# EAGLE library part LPC2138FHN64/01,55 (library NXP_By_element14_Batch_1)
Microcontroller ISP/IAP Flash with 10-bit ADC and DAC
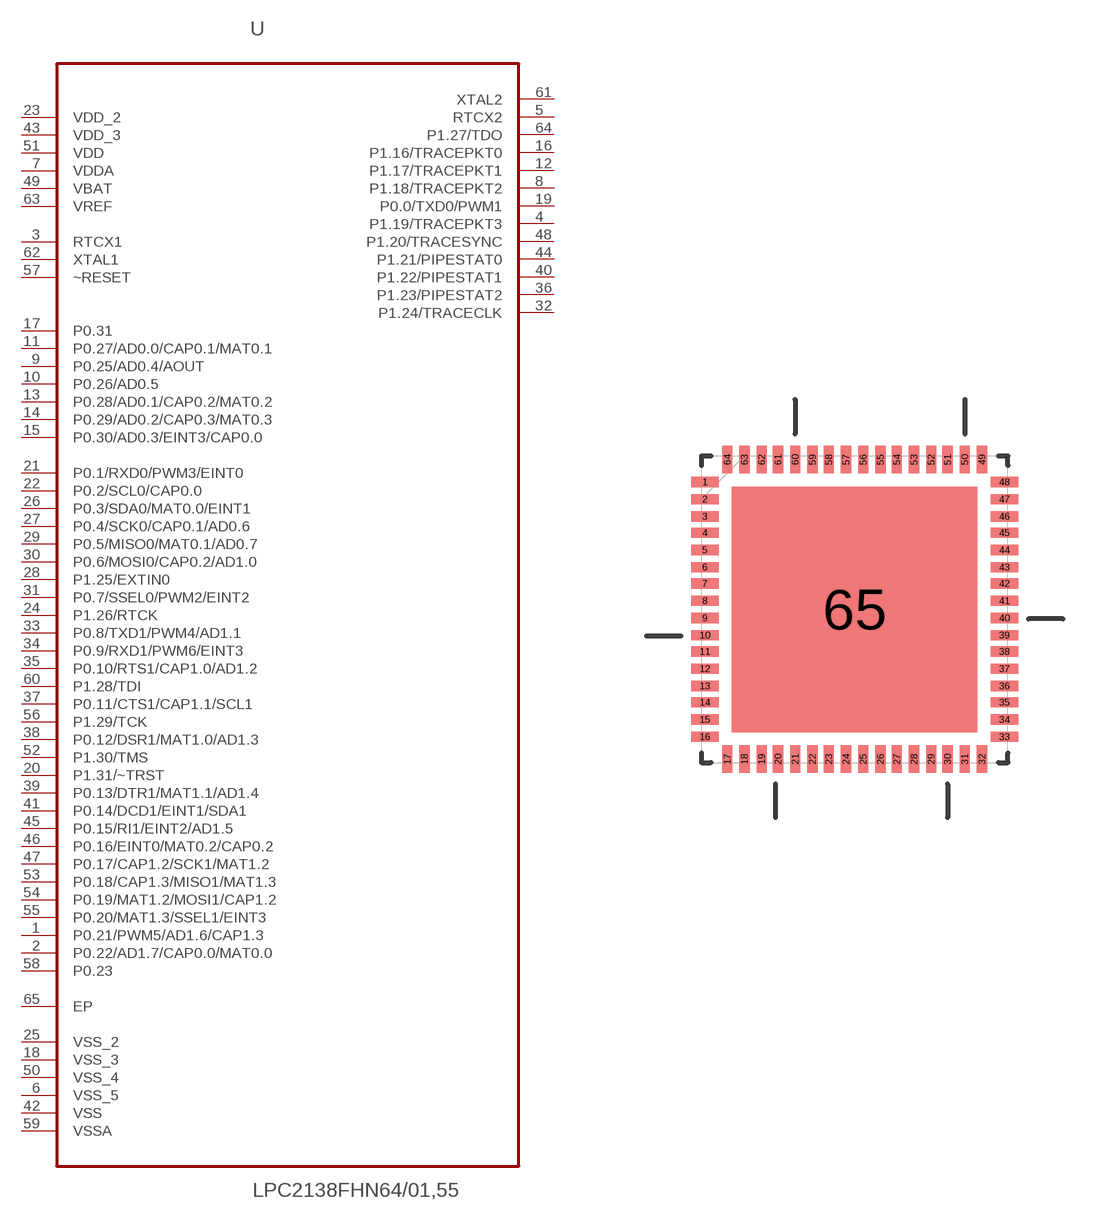
[diagram p369: symbol with the pads of QFN50P900X900X100-65N; footprint QFN50P900X900X100-65N]

Designator prefix U

## LPC2138FHN64/01,55 (MPN: LPC2138FHN64/01,55; OC_FARNELL: -; OC_NEWARK: 70R5626; PACKAGE: HVQFN-64; SUPPLIER: NXP Semiconductor)  [QFN50P900X900X100-65N]
1  P0.21/PWM5/AD1.6/CAP1.3
2  P0.22/AD1.7/CAP0.0/MAT0.0
3  RTCX1  in
4  P1.19/TRACEPKT3  out
5  RTCX2  out
6  VSS_5  pas
7  VDDA  pwr
8  P1.18/TRACEPKT2  out
9  P0.25/AD0.4/AOUT  pas
10  P0.26/AD0.5
11  P0.27/AD0.0/CAP0.1/MAT0.1
12  P1.17/TRACEPKT1  out
13  P0.28/AD0.1/CAP0.2/MAT0.2
14  P0.29/AD0.2/CAP0.3/MAT0.3
15  P0.30/AD0.3/EINT3/CAP0.0  in
16  P1.16/TRACEPKT0  out
17  P0.31
18  VSS_3  pas
19  P0.0/TXD0/PWM1  out
20  P1.31/~TRST  in
21  P0.1/RXD0/PWM3/EINT0
22  P0.2/SCL0/CAP0.0
23  VDD_2  pwr
24  P1.26/RTCK
25  VSS_2
26  P0.3/SDA0/MAT0.0/EINT1
27  P0.4/SCK0/CAP0.1/AD0.6
28  P1.25/EXTIN0  in
29  P0.5/MISO0/MAT0.1/AD0.7
30  P0.6/MOSI0/CAP0.2/AD1.0
31  P0.7/SSEL0/PWM2/EINT2
32  P1.24/TRACECLK  out
33  P0.8/TXD1/PWM4/AD1.1
34  P0.9/RXD1/PWM6/EINT3
35  P0.10/RTS1/CAP1.0/AD1.2
36  P1.23/PIPESTAT2  out
37  P0.11/CTS1/CAP1.1/SCL1
38  P0.12/DSR1/MAT1.0/AD1.3
39  P0.13/DTR1/MAT1.1/AD1.4
40  P1.22/PIPESTAT1  out
41  P0.14/DCD1/EINT1/SDA1
42  VSS  pas
43  VDD_3  pwr
44  P1.21/PIPESTAT0  out
45  P0.15/RI1/EINT2/AD1.5  in
46  P0.16/EINT0/MAT0.2/CAP0.2
47  P0.17/CAP1.2/SCK1/MAT1.2
48  P1.20/TRACESYNC  out
49  VBAT  pwr
50  VSS_4  pas
51  VDD  pwr
52  P1.30/TMS  in
53  P0.18/CAP1.3/MISO1/MAT1.3
54  P0.19/MAT1.2/MOSI1/CAP1.2
55  P0.20/MAT1.3/SSEL1/EINT3
56  P1.29/TCK  in
57  ~RESET  in
58  P0.23
59  VSSA  pas
60  P1.28/TDI  in
61  XTAL2  out
62  XTAL1  in
63  VREF  pwr
64  P1.27/TDO  out
65  EP  pas

## Footprint QFN50P900X900X100-65N (pad centres in mm)
smd 0.813 x 0.305: 1 -4.42,3.759; 2 -4.42,3.251; 3 -4.42,2.743; 4 -4.42,2.261; 5 -4.42,1.753; 6 -4.42,1.245; 7 -4.42,0.762; 8 -4.42,0.254; 9 -4.42,-0.254; 10 -4.42,-0.762; 11 -4.42,-1.245; 12 -4.42,-1.753; 13 -4.42,-2.261; 14 -4.42,-2.743; 15 -4.42,-3.251; 16 -4.42,-3.759; 33 4.42,-3.759; 34 4.42,-3.251; 35 4.42,-2.743; 36 4.42,-2.261; 37 4.42,-1.753; 38 4.42,-1.245; 39 4.42,-0.762; 40 4.42,-0.254; 41 4.42,0.254; 42 4.42,0.762; 43 4.42,1.245; 44 4.42,1.753; 45 4.42,2.261; 46 4.42,2.743; 47 4.42,3.251; 48 4.42,3.759
smd 0.305 x 0.813: 17 -3.759,-4.42; 18 -3.251,-4.42; 19 -2.743,-4.42; 20 -2.261,-4.42; 21 -1.753,-4.42; 22 -1.245,-4.42; 23 -0.762,-4.42; 24 -0.254,-4.42; 25 0.254,-4.42; 26 0.762,-4.42; 27 1.245,-4.42; 28 1.753,-4.42; 29 2.261,-4.42; 30 2.743,-4.42; 31 3.251,-4.42; 32 3.759,-4.42; 49 3.759,4.42; 50 3.251,4.42; 51 2.743,4.42; 52 2.261,4.42; 53 1.753,4.42; 54 1.245,4.42; 55 0.762,4.42; 56 0.254,4.42; 57 -0.254,4.42; 58 -0.762,4.42; 59 -1.245,4.42; 60 -1.753,4.42; 61 -2.261,4.42; 62 -2.743,4.42; 63 -3.251,4.42; 64 -3.759,4.42
smd 7.239 x 7.239: 65 0,0